# EAGLE library part 733-342 (library con-wago_2.5mm)
Serie 733, Stiftleiste (für Leiterplatten) Einlötstift gerade 0,8 x 0,8 mm / Series 733, Male header (for PCBs) Straight solder pin 0.8 x 0.8 mm Polzahl / Pole No.: 12 Rastermaß / Pitch: 2.5 mm Bemessungsspannung / Rated Voltage: 160 V Nennstrom / Nominal Current: 6 A Lötstiftlänge: / Solder Pin Length: 4.6 mm Farbe / Color: lichtgrau / light gray Stand: 01.01.2012. Die jeweils aktuellen Daten zu diesem Artikel finden Sie in unserem Produktkatalog, den Sie unter www.wago.com einsehen können. As of: 01/01/2012. Please find the newest data for this article in our product catalogue, which can be viewed under www.wago.com.
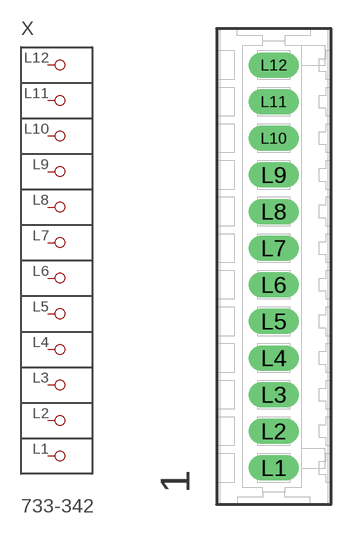
[diagram p4: symbol with the pads of P-733-342/100-000; footprint P-733-342/100-000]

Designator prefix X

## 733-342  [P-733-342/100-000]
L1  P1
L2  P2
L3  P3
L4  P4
L5  P5
L6  P6
L7  P7
L8  P8
L9  P9
L10  P10
L11  P11
L12  P12

## Footprint P-733-342/100-000 (pad centres in mm)
drill 1.15 long: L1 0,-13.75; L2 0,-11.25; L3 0,-8.75; L4 0,-6.25; L5 0,-3.75; L6 0,-1.25; L7 0,1.25; L8 0,3.75; L9 0,6.25; L10 0,8.75; L11 0,11.25; L12 0,13.75